# Altium footprint library QFN50P500X500X80-29N.PcbLib: 1 footprints
Each footprint in its own frame and in the unit in brackets; x right, y up, seen from the top. Pads: shape width x height; smd on the part's side, far side on the other; paste and mask are expansions set on the pad; w line width, h text height; cw(c..) or ccw(c..) is an arc to the next point about the centre after c.
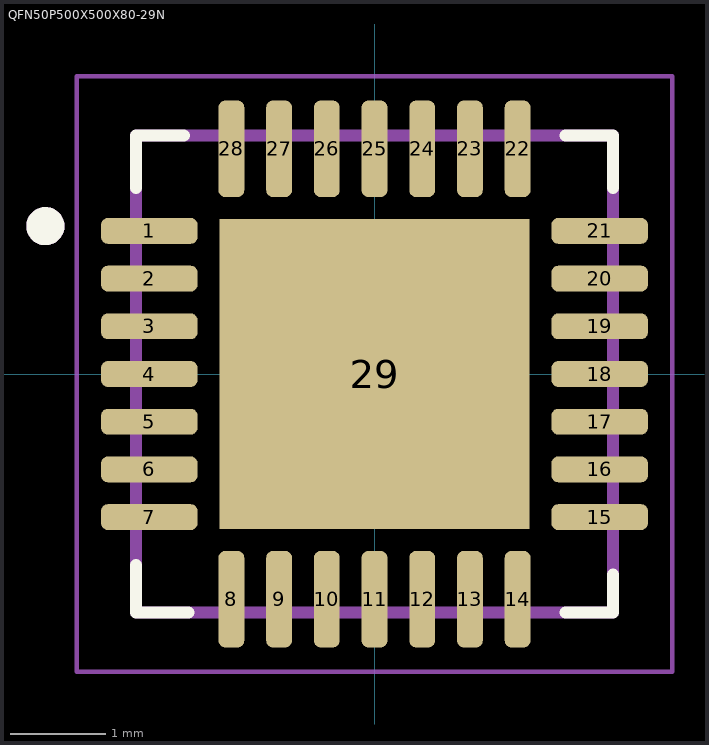
[diagram p0: the footprint, top view; thin cyan lines are the x and y axes]

## QFN50P500X500X80-29N [mm]
height 0.8
pads (29):
  rrect50% 1.01x0.27 smd: 1(-2.36,1.5) 2(-2.36,1) 3(-2.36,0.5) 4(-2.36,0) 5(-2.36,-0.5) 6(-2.36,-1) 7(-2.36,-1.5) 15(2.36,-1.5) 16(2.36,-1) 17(2.36,-0.5) 18(2.36,0) 19(2.36,0.5) 20(2.36,1) 21(2.36,1.5)
  rrect50% 0.27x1.01 smd: 8(-1.5,-2.36) 9(-1,-2.36) 10(-0.5,-2.36) 11(0,-2.36) 12(0.5,-2.36) 13(1,-2.36) 14(1.5,-2.36) 22(1.5,2.36) 23(1,2.36) 24(0.5,2.36) 25(0,2.36) 26(-0.5,2.36) 27(-1,2.36) 28(-1.5,2.36)
  rect 3.25x3.25 smd paste-3: 29(0,0)
Top Overlay:
  circle w0.2: c-3.45,1.55 r0.1
  lines w0.127: -2.5,-2 -2.5,-2.5 -1.95,-2.5 ; -2.5,1.95 -2.5,2.5 -2,2.5 ; 2,-2.5 2.5,-2.5 2.5,-2.1 ; 2,2.5 2.5,2.5 2.5,1.95
Top Paste:
  region: 1.331,-1.331 0.179,-1.331 0.179,-0.181 1.331,-0.181
  region: -0.18,-1.331 -1.331,-1.331 -1.331,-0.18 -0.18,-0.18
  region: -0.181,0.179 -1.331,0.179 -1.331,1.331 -0.181,1.331
  region: 1.33,0.18 0.18,0.18 0.18,1.33 1.33,1.33
Mechanical 13:
  circle w0.2: c-3.45,1.55 r0.1
  lines w0.127: -2.5,-2.5 -2.5,2.5 2.5,2.5 2.5,-2.5 -2.5,-2.5
Mechanical 15:
  lines w0.05: -3.12,-3.12 -3.12,3.12 3.12,3.12 3.12,-3.12 -3.12,-3.12
3D body "step_temp.STEP": height 0.78, standoff -0.02, extent -2.5,-2.5 2.5,2.5